# EAGLE library part 47571 (library con-sd-card)
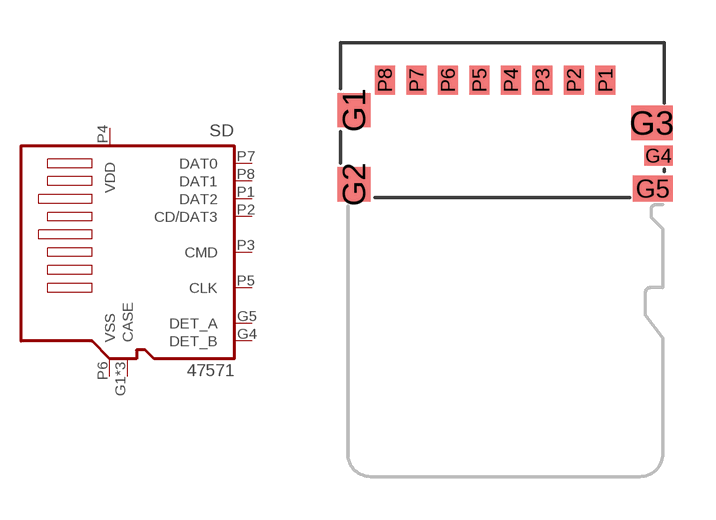
[diagram p5: symbol with the pads of 47571; footprint 47571]

Designator prefix SD

## 47571BOT (DIGIKEY: WM9731CT-ND)  [47571]
G1  CASE
G2  CASE
G3  CASE
G4  DET_B
G5  DET_A
P1  DAT2
P2  CD/DAT3
P3  CMD
P4  VDD
P5  CLK
P6  VSS
P7  DAT0
P8  DAT1

## Footprint 47571 (pad centres in mm)
smd 1.15 x 1.2: G1 -4.925,-1.05; G2 -4.925,-3.64
smd 1.45 x 1.2: G3 5.475,-1.49
smd 1 x 0.7: G4 5.7,-2.64
smd 1.4 x 0.9: G5 5.5,-3.79
smd 0.7 x 1: P1 3.85,0; P2 2.75,0; P3 1.65,0; P4 0.55,0; P5 -0.55,0; P6 -1.65,0; P7 -2.75,0; P8 -3.85,0